# Altium footprint library SDP810125Pa.PcbLib: 1 footprints
Each footprint in its own frame and in the unit in brackets; x right, y up, seen from the top. Pads: shape width x height; smd on the part's side, far side on the other; paste and mask are expansions set on the pad; w line width, h text height; cw(c..) or ccw(c..) is an arc to the next point about the centre after c.
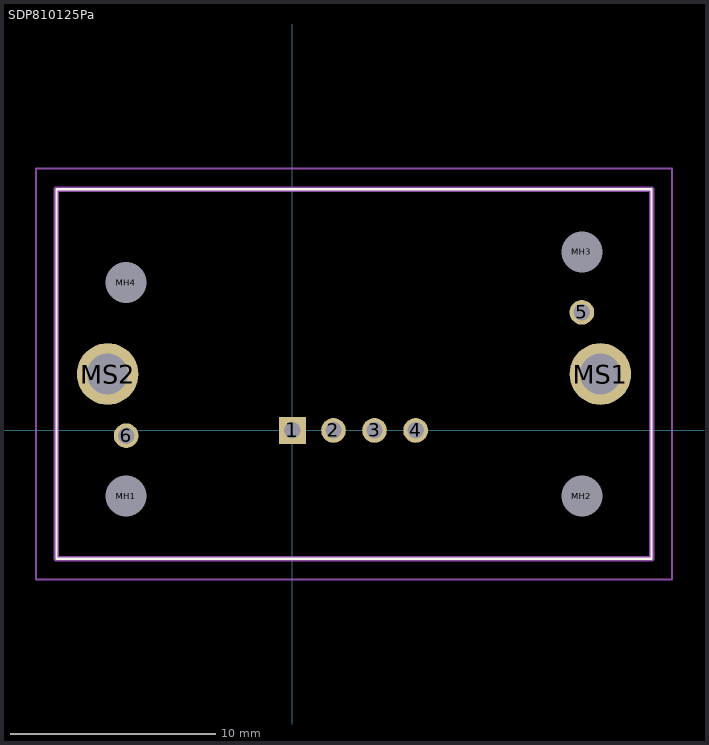
[diagram p0: the footprint, top view; thin cyan lines are the x and y axes]

## SDP810125Pa [mm]
pads (12):
  rect 1.3x1.3 hole 0.8: 1(0,0)
  round 1.2 hole 0.8: 2(2,0) 3(4,0) 4(6,0) 5(14.1,5.75) 6(-8.1,-0.25)
  round 1 hole 2 unplated: MH1(-8.1,-3.2) MH2(14.1,-3.2) MH3(14.1,8.7) MH4(-8.1,7.2)
  round 3 hole 2: MS1(15,2.75) MS2(-9,2.75)
Top Overlay:
  lines w0.1: -11.5,-6.25 -11.5,11.75 17.5,11.75 17.5,-6.25 -11.5,-6.25
Mechanical 15:
  lines w0.254: -11.5,-6.25 -11.5,11.75 17.5,11.75 17.5,-6.25 -11.5,-6.25
Mechanical 20:
  lines w0.1: -12.5,-7.25 -12.5,12.75 18.5,12.75 18.5,-7.25 -12.5,-7.25
3D body: height 0, standoff 0, extent -11.55,-6.3 17.55,11.8
3D body: height 0, standoff 0, extent -10.602,-4.2 16.602,9.7
3D body: height 0, standoff 0, extent -11.627,-6.377 17.627,11.877
3D body: height 0, standoff 0, extent -11.499,-6.249 17.499,11.749
3D body: height 0, standoff 0, extent -12.499,-7.249 18.499,12.749
3D body: height 0, standoff 0, extent -12.55,-7.3 18.55,12.8
3D body "sensirion.stp": height 23.79, standoff -3.26, extent -11.706,-6.435 17.294,11.515